# EAGLE library part TPS82130SILR (library micromousev2Parts)
3-A 17V Step-down Converter Module with Integrated Inductor Source: Datasheet <http://www.ti.com/lit/gpn/tps82130>
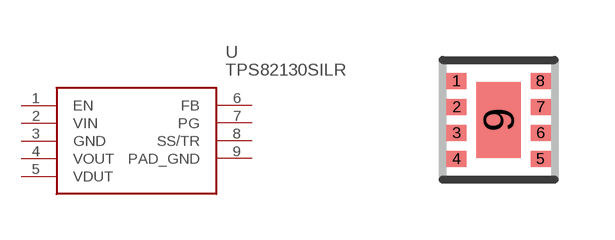
[diagram p7: symbol with the pads of SIL0008D; footprint SIL0008D]

Designator prefix U

## TPS82130SILR (ARROW_PART_NUMBER: TPS82130SILR; ARROW_PRICE/STOCK: https://www.arrow.com/en/products/tps82130silr/texas-instruments; DESCRIPTION: 3-A 17V Step-down Converter Module with Integrated Inductor; HEIGHT: mm; MANUFACTURER_NAME: Texas Instruments; MANUFACTURER_PART_NUMBER: TPS82130SILR)  [SIL0008D]
1  EN
2  VIN
3  GND
4  VOUT
5  VDUT
6  FB
7  PG
8  SS/TR
9  PAD_GND

## Footprint SIL0008D (pad centres in mm)
SIL0008D
smd 0.5 x 0.4: 1 -1.05,0.975; 2 -1.05,0.325; 3 -1.05,-0.325; 4 -1.05,-0.975; 5 1.05,-0.975; 6 1.05,-0.325; 7 1.05,0.325; 8 1.05,0.975
smd 1.1 x 1.9: 9 0,0